# Altium schematic symbol library LNA_Testboard_1.SCHLIB: 2 symbols
Pins are listed as number, name and electrical type; pins without a type are passive.

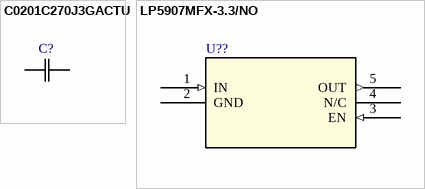
[diagram p0: symbols C0201C270J3GACTU to LP5907MFX-3.3/NO]

## C0201C270J3GACTU
designator C?
No Description Available; Manufacturer_Part_Number: C0201C270J3GACTU; Vendor: Kemet; Built_By: EMA_UL_Team; Type: DEV; Copyright: Copyright (C) 2018 Accelerated Designs. All rights reserved; RefDes: RefDes; Value: Value
footprint YAG_CC0402
pins: 1, 2

## LP5907MFX-3.3/NO
designator U??
No Description Available; Manufacturer_Part_Number: LP5907MFX-3.3/NOPB; Vendor: Texas Instruments; Built_By: EMA_UL_Team; Copyright: Copyright (C) 2018 Accelerated Designs. All rights reserved; RefDes: RefDes; Type: DEV; Value: Value
footprint DBV5
pins: 1 IN (in), 2 GND (power), 3 EN (in), 4 N/C, 5 OUT (out)